# Altium schematic symbol library fse.SchLib: 5 symbols
Pins are listed as number, name and electrical type; pins without a type are passive.

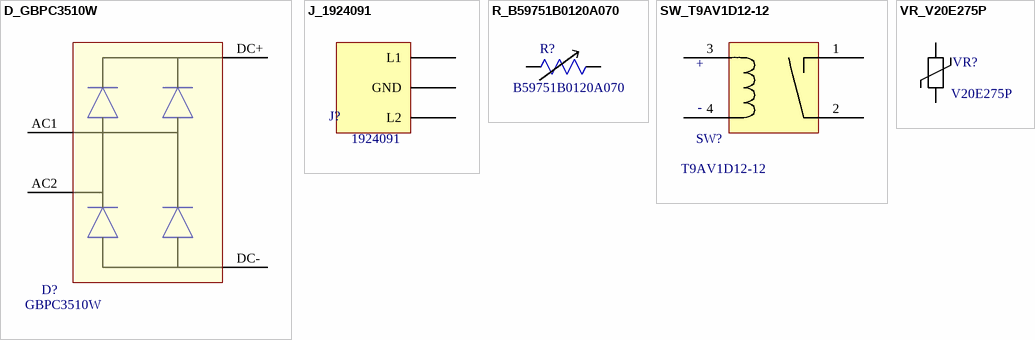
[diagram p0: symbols D_GBPC3510W to VR_V20E275P]

## D_GBPC3510W
designator D?, comment PN: GBPC3510W  (hidden comment: Short Part Description)
RECT BRIDGE GPP 35A 1000V GBPC-W; MFG: Fairchild Semiconductor
pins: AC1, AC2, DC+, DC-

## J_1924091
designator J?  PN: 1924091  (hidden comment: *)
CONN HEADER 3POS 5.08MM; MFG: Phoenix Contact
pins: GND, L1, L2

## R_B59751B0120A070
designator R?  PN: B59751B0120A070  (hidden comment: R_B59751B0120A070)
PTC RESETTABLE 87MA 380V RAD; MFG: EPCOS Inc
pins: 1, 2

## SW_T9AV1D12-12
designator SW?  PN: T9AV1D12-12  (hidden comment: SW_T9AV1D12-12)
RELAY GEN PURPOSE SPST 30A 12V; MFG: TE Connectivity
pins: 1, 2, 3 +, 4
text: -

## VR_V20E275P
designator VR?, comment V20E275P
200V 100J Varistor; MFG: Littelfuse Inc; PN: V20E275P
footprint ERZ-V20R201 (100J 20mm Metal Oxide Varistor)
pins: 1, 2